# EAGLE library part HEADER-2X3P-1.27 (library template)
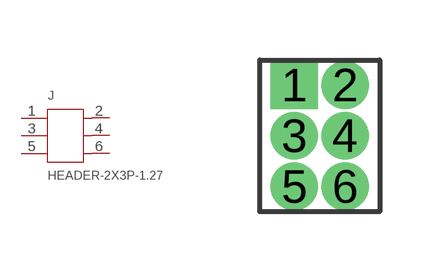
[diagram p22: symbol with the pads of 2X3P-1.27; footprint 2X3P-1.27]

Designator prefix J

## HEADER-2X3P-1.27  [2X3P-1.27]
1  1
2  2
3  3
4  4
5  5
6  6

## Footprint 2X3P-1.27 (pad centres in mm)
drill 0.686 pad 1.092 square: 1 -0.635,1.27
drill 0.686 pad 1.092: 2 0.635,1.27; 3 -0.635,0; 4 0.635,0; 5 -0.635,-1.27; 6 0.635,-1.27